# Altium footprint library PcbLib1.PcbLib: 35 footprints (part 3 of 3)
Each footprint in its own frame and in the unit in brackets; x right, y up, seen from the top. Pads: shape width x height; smd on the part's side, far side on the other; paste and mask are expansions set on the pad; w line width, h text height; cw(c..) or ccw(c..) is an arc to the next point about the centre after c.
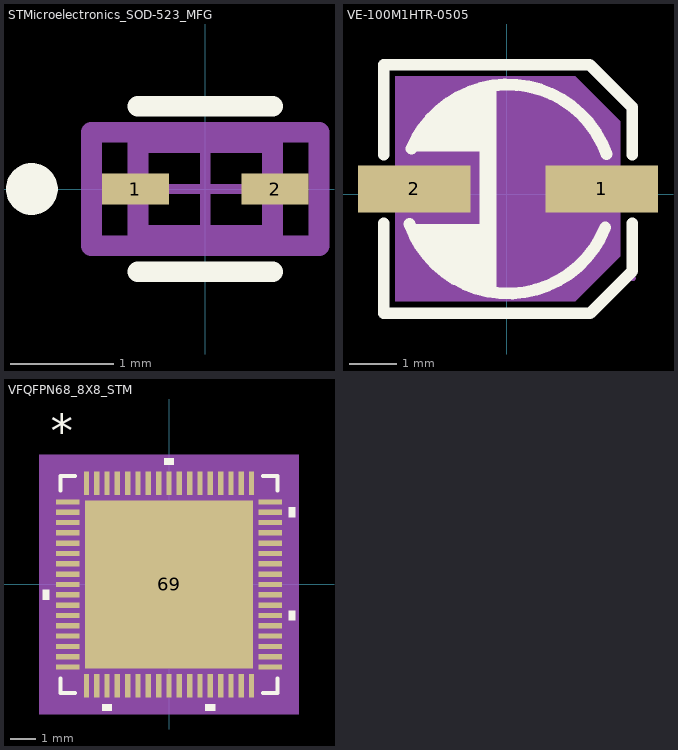
[diagram p2: the footprints below, top view; thin cyan lines are the x and y axes]

## STMicroelectronics_SOD-523_MFG [mm]
pads (2):
  rect 0.65x0.3 smd paste+0 mask+0: 1(-0.675,0) 2(0.675,0)
Top Overlay:
  circle w0.25: c-1.675,0 r0.125
  lines w0.2: -0.65,-0.8 0.65,-0.8 ; -0.65,0.8 0.65,0.8
Mechanical 10:
  lines w0.2: -1.1,-0.55 1.1,-0.55 1.1,0.55 -1.1,0.55 -1.1,-0.55
Mechanical 12:
  lines w0.2: -0.65,-0.45 0.65,-0.45 0.65,0.45 -0.65,0.45 -0.65,-0.45
Mechanical 15:
  lines w0.1: -0.5,0 0.5,0 ; 0,-0.5 0,0.5
  lines w0.2: -1.1,-0.55 1.1,-0.55 1.1,0.55 -1.1,0.55 -1.1,-0.55
3D body "Diode_STMicroelectronics_BAT54KFILM_eec.STEP": height 0.7, standoff 0, extent -0.8,-0.4 0.8,0.4

## VE-100M1HTR-0505 [mm] "10uf Electrolytic 5x5.3"
height 5.3
pads (2):
  rect 2.4x1 smd: 1(2.025,0.11) 2(-1.975,0.11)
Top Overlay:
  region: -0.225,-2.09 -0.225,2.26 -0.625,2.16 -1.075,2.01 -1.425,1.71 -1.775,1.36 -1.925,1.16 -2.025,0.91 -0.575,0.91 -0.575,-0.64 -2.075,-0.64 -1.925,-0.94 -1.775,-1.24 -1.625,-1.44 -1.325,-1.64 -1.075,-1.79 -0.825,-1.94 -0.575,-2.04
  lines w0.254: -2.625,-0.621 -2.625,-2.54 1.755,-2.54 1.775,-2.54 2.675,-1.64 2.675,-0.621 ; -2.625,0.841 -2.625,2.76 1.765,2.76 2.665,1.86 2.675,1.86 2.675,0.841 ; -2.075,-0.64 ccw(c0.025,0.11) 2.099,-0.709 ; -2.033,0.968 cw(c0.025,0.11) 2.125,0.86
Mechanical 4:
  region: -2.376,-2.29 -2.376,2.51 1.465,2.51 2.425,1.55 2.425,-1.33 1.465,-2.29
Mechanical 5:
  region: 2.975,0.435 2.975,-0.215 1.025,-0.215 1.025,0.435
  region: -2.925,0.435 -2.925,-0.215 -0.975,-0.215 -0.975,0.435
Mechanical 6:
  circle w0.06: c2.692,-1.795 r0.03
Mechanical 15:
  region: 2.064,-0.37 2.064,0.59 1.921,0.59 1.921,-0.37
  region: 2.281,0.038 2.281,0.182 1.705,0.182 1.705,0.038
  region: -2.232,0.038 -2.232,0.182 -1.656,0.182 -1.656,0.038

## VFQFPN68_8X8_STM [mil]
pads (69):
  rect 36x8 smd paste+0 mask+0: 1(-154.5,125.98) 2(-154.5,110.24) 3(-154.5,94.49) 4(-154.5,78.74) 5(-154.5,62.99) 6(-154.5,47.24) 7(-154.5,31.5) 8(-154.5,15.75) 9(-154.5,0) 10(-154.5,-15.75) 11(-154.5,-31.5) 12(-154.5,-47.24) 13(-154.5,-62.99) 14(-154.5,-78.74) 15(-154.5,-94.49) 16(-154.5,-110.24) 17(-154.5,-125.98) 35(154.5,-125.98) 36(154.5,-110.24) 37(154.5,-94.49) 38(154.5,-78.74) 39(154.5,-62.99) 40(154.5,-47.24) 41(154.5,-31.5) 42(154.5,-15.75) 43(154.5,0) 44(154.5,15.75) 45(154.5,31.5) 46(154.5,47.24) 47(154.5,62.99) 48(154.5,78.74) 49(154.5,94.49) 50(154.5,110.24) 51(154.5,125.98)
  rect 8x36 smd paste+0 mask+0: 18(-125.98,-154.5) 19(-110.24,-154.5) 20(-94.49,-154.5) 21(-78.74,-154.5) 22(-62.99,-154.5) 23(-47.24,-154.5) 24(-31.5,-154.5) 25(-15.75,-154.5) 26(0,-154.5) 27(15.75,-154.5) 28(31.5,-154.5) 29(47.24,-154.5) 30(62.99,-154.5) 31(78.74,-154.5) 32(94.49,-154.5) 33(110.24,-154.5) 34(125.98,-154.5) 52(125.98,154.5) 53(110.24,154.5) 54(94.49,154.5) 55(78.74,154.5) 56(62.99,154.5) 57(47.24,154.5) 58(31.5,154.5) 59(15.75,154.5) 60(0,154.5) 61(-15.75,154.5) 62(-31.5,154.5) 63(-47.24,154.5) 64(-62.99,154.5) 65(-78.74,154.5) 66(-94.49,154.5) 67(-110.24,154.5) 68(-125.98,154.5)
  rect 256x256 smd paste-127.5 mask+0: 69(0,0)
Top Overlay:
  region: 7.5,182.5 -7.5,182.5 -7.5,192.5 7.5,192.5
  region: 182.5,117.74 192.5,117.74 192.5,102.74 182.5,102.74
  region: 182.5,-39.74 192.5,-39.74 192.5,-54.74 182.5,-54.74
  region: 70.49,-182.5 55.49,-182.5 55.49,-192.5 70.49,-192.5
  region: -86.99,-182.5 -101.99,-182.5 -101.99,-192.5 -86.99,-192.5
  region: -182.5,-8.25 -192.5,-8.25 -192.5,-23.25 -182.5,-23.25
  lines w6: -165.5,-143.08 -165.5,-165.5 -143.08,-165.5 ; -165.5,143.08 -165.5,165.5 -143.08,165.5 ; 143.08,-165.5 165.5,-165.5 165.5,-143.08 ; 143.08,165.5 165.5,165.5 165.5,143.08
  text "*" at -180,210 h50
Top Paste:
  region: 124.06,-80.74 80.74,-80.74 80.74,-124.06 124.06,-124.06
  region: 124.06,-29.54 80.74,-29.54 80.74,-72.86 124.06,-72.86
  region: 124.06,21.66 80.74,21.66 80.74,-21.66 124.06,-21.66
  region: 124.06,72.86 80.74,72.86 80.74,29.54 124.06,29.54
  region: 124.06,124.06 80.74,124.06 80.74,80.74 124.06,80.74
  region: 72.86,-80.74 29.54,-80.74 29.54,-124.06 72.86,-124.06
  region: 72.86,-29.54 29.54,-29.54 29.54,-72.86 72.86,-72.86
  region: 72.86,21.66 29.54,21.66 29.54,-21.66 72.86,-21.66
  region: 72.86,72.86 29.54,72.86 29.54,29.54 72.86,29.54
  region: 72.86,124.06 29.54,124.06 29.54,80.74 72.86,80.74
  region: 21.66,-80.74 -21.66,-80.74 -21.66,-124.06 21.66,-124.06
  region: 21.66,-29.54 -21.66,-29.54 -21.66,-72.86 21.66,-72.86
  region: 21.66,21.66 -21.66,21.66 -21.66,-21.66 21.66,-21.66
  region: 21.66,72.86 -21.66,72.86 -21.66,29.54 21.66,29.54
  region: 21.66,124.06 -21.66,124.06 -21.66,80.74 21.66,80.74
  region: -29.54,-80.74 -72.86,-80.74 -72.86,-124.06 -29.54,-124.06
  region: -29.54,-29.54 -72.86,-29.54 -72.86,-72.86 -29.54,-72.86
  region: -29.54,21.66 -72.86,21.66 -72.86,-21.66 -29.54,-21.66
  region: -29.54,72.86 -72.86,72.86 -72.86,29.54 -29.54,29.54
  region: -29.54,124.06 -72.86,124.06 -72.86,80.74 -29.54,80.74
  region: -80.74,-80.74 -124.06,-80.74 -124.06,-124.06 -80.74,-124.06
  region: -80.74,-29.54 -124.06,-29.54 -124.06,-72.86 -80.74,-72.86
  region: -80.74,21.66 -124.06,21.66 -124.06,-21.66 -80.74,-21.66
  region: -80.74,72.86 -124.06,72.86 -124.06,29.54 -80.74,29.54
  region: -80.74,124.06 -124.06,124.06 -124.06,80.74 -80.74,80.74
Mechanical 5:
  region: 197.5,-197.5 -197.5,-197.5 -197.5,197.5 197.5,197.5
Mechanical 13:
  lines w1: -160.5,110.5 -110.5,160.5 ; -160.5,-160.5 -160.5,160.5 160.5,160.5 160.5,-160.5 -160.5,-160.5 ; -160.5,-130.98 -160.5,-120.98 -160.5,-130.98 ; -160.5,-115.24 -160.5,-105.24 -160.5,-115.24 ; -160.5,-99.49 -160.5,-89.49 -160.5,-99.49 ; -160.5,-83.74 -160.5,-73.74 -160.5,-83.74 ; -160.5,-67.99 -160.5,-57.99 -160.5,-67.99 ; -160.5,-52.24 -160.5,-42.24 -160.5,-52.24 ; -160.5,-36.5 -160.5,-26.5 -160.5,-36.5 ; -160.5,-20.75 -160.5,-10.75 -160.5,-20.75 ; -160.5,-5 -160.5,5 -160.5,-5 ; -160.5,10.75 -160.5,20.75 -160.5,10.75 ; -160.5,26.5 -160.5,36.5 -160.5,26.5 ; -160.5,42.24 -160.5,52.24 -160.5,42.24 ; -160.5,57.99 -160.5,67.99 -160.5,57.99 ; -160.5,73.74 -160.5,83.74 -160.5,73.74 ; -160.5,89.49 -160.5,99.49 -160.5,89.49 ; -160.5,105.24 -160.5,115.24 -160.5,105.24 ; -160.5,120.98 -160.5,130.98 -160.5,120.98 ; -130.98,-160.5 -120.98,-160.5 -130.98,-160.5 ; -130.98,160.5 -120.98,160.5 -130.98,160.5 ; -115.24,-160.5 -105.24,-160.5 -115.24,-160.5 ; -115.24,160.5 -105.24,160.5 -115.24,160.5 ; -99.49,-160.5 -89.49,-160.5 -99.49,-160.5 ; -99.49,160.5 -89.49,160.5 -99.49,160.5 ; -83.74,-160.5 -73.74,-160.5 -83.74,-160.5 ; -83.74,160.5 -73.74,160.5 -83.74,160.5 ; -67.99,-160.5 -57.99,-160.5 -67.99,-160.5 ; -67.99,160.5 -57.99,160.5 -67.99,160.5 ; -52.24,-160.5 -42.24,-160.5 -52.24,-160.5 ; -52.24,160.5 -42.24,160.5 -52.24,160.5 ; -36.5,-160.5 -26.5,-160.5 -36.5,-160.5 ; -36.5,160.5 -26.5,160.5 -36.5,160.5 ; -20.75,-160.5 -10.75,-160.5 -20.75,-160.5 ; -20.75,160.5 -10.75,160.5 -20.75,160.5 ; -5,-160.5 5,-160.5 -5,-160.5 ; -5,160.5 5,160.5 -5,160.5 ; 10.75,-160.5 20.75,-160.5 10.75,-160.5 ; 10.75,160.5 20.75,160.5 10.75,160.5 ; 26.5,-160.5 36.5,-160.5 26.5,-160.5 ; 26.5,160.5 36.5,160.5 26.5,160.5 ; 42.24,-160.5 52.24,-160.5 42.24,-160.5 ; 42.24,160.5 52.24,160.5 42.24,160.5 ; 57.99,-160.5 67.99,-160.5 57.99,-160.5 ; 57.99,160.5 67.99,160.5 57.99,160.5 ; 73.74,-160.5 83.74,-160.5 73.74,-160.5 ; 73.74,160.5 83.74,160.5 73.74,160.5 ; 89.49,-160.5 99.49,-160.5 89.49,-160.5 ; 89.49,160.5 99.49,160.5 89.49,160.5 ; 105.24,-160.5 115.24,-160.5 105.24,-160.5 ; 105.24,160.5 115.24,160.5 105.24,160.5 ; 120.98,-160.5 130.98,-160.5 120.98,-160.5 ; 120.98,160.5 130.98,160.5 120.98,160.5 ; 160.5,-130.98 160.5,-120.98 160.5,-130.98 ; 160.5,-115.24 160.5,-105.24 160.5,-115.24 ; 160.5,-99.49 160.5,-89.49 160.5,-99.49 ; 160.5,-83.74 160.5,-73.74 160.5,-83.74 ; 160.5,-67.99 160.5,-57.99 160.5,-67.99 ; 160.5,-52.24 160.5,-42.24 160.5,-52.24 ; 160.5,-36.5 160.5,-26.5 160.5,-36.5 ; 160.5,-20.75 160.5,-10.75 160.5,-20.75 ; 160.5,-5 160.5,5 160.5,-5 ; 160.5,10.75 160.5,20.75 160.5,10.75 ; 160.5,26.5 160.5,36.5 160.5,26.5 ; 160.5,42.24 160.5,52.24 160.5,42.24 ; 160.5,57.99 160.5,67.99 160.5,57.99 ; 160.5,73.74 160.5,83.74 160.5,73.74 ; 160.5,89.49 160.5,99.49 160.5,89.49 ; 160.5,105.24 160.5,115.24 160.5,105.24 ; 160.5,120.98 160.5,130.98 160.5,120.98
  text "*" at -149,108.86 h50
Mechanical 15:
  region: -139.98,-170.5 -170.5,-170.5 -170.5,-139.98 -182.5,-139.98 -182.5,139.98 -170.5,139.98 -170.5,170.5 -139.98,170.5 -139.98,182.5 139.98,182.5 139.98,170.5 170.5,170.5 170.5,139.98 182.5,139.98 182.5,-139.98 170.5,-139.98 170.5,-170.5 139.98,-170.5 139.98,-182.5 -139.98,-182.5
  lines w6: -182.5,-139.98 -182.5,139.98 -170.5,139.98 -170.5,170.5 -139.98,170.5 -139.98,182.5 139.98,182.5 139.98,170.5 170.5,170.5 170.5,139.98 182.5,139.98 182.5,-139.98 170.5,-139.98 170.5,-170.5 139.98,-170.5 139.98,-182.5 -139.98,-182.5 -139.98,-170.5 -170.5,-170.5 -170.5,-139.98 -182.5,-139.98
3D body: height 10, standoff 0, extent 0,0 10,10